# EAGLE library part TXS0104E_RGY_14 (library Deegou_IC)
Texas Instruments TXS0104ERGYR, Voltage Level Translator, Open Drain, 1.65 3.6 V, 2.3 5.5 V, 14-Pin Source: Datasheet <http://www.ti.com/general/docs/lit/getliterature.tsp?genericPartNumber=TXS0104E&&fileType=pdf>
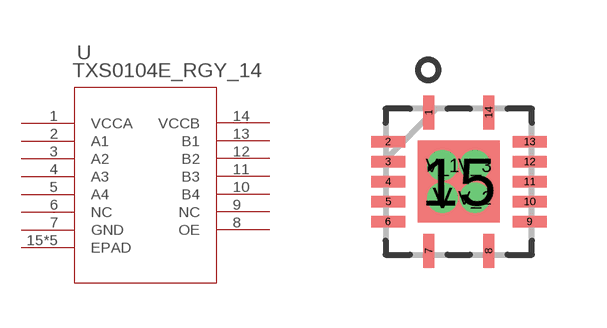
[diagram p121: symbol with the pads of RGY14_2P05X2P05; footprint RGY14_2P05X2P05]

Designator prefix U

## TXS0104E_RGY_14 (DATASHEETURL: httpwww.ti.comlitgpnTXS0104E; FAMILY_NAME: AUTO DIRECTION SENSING DUAL SUPPLY TRANSLATOR; GENERIC_PART_NUMBER: TXS0104E; INDUSTRY_STD_PKG_TYPE: VQFN; MANUFACTURER: Texas Instruments; MANUFACTURER_PART_NUMBER: txs0104e_rgy_14; PACKAGE_DESIGNATOR: RGY; PIN_COUNT: 14; VENDOR: Texas Instruments)  [RGY14_2P05X2P05]
1  VCCA  pwr
2  A1
3  A2
4  A3
5  A4
6  NC  pas
7  GND  pwr
8  OE  out
9  NC  pas
10  B4
11  B3
12  B2
13  B1
14  VCCB  pwr
15  EPAD  pas
V  EPAD  pas
V_1  EPAD  pas
V_2  EPAD  pas
V_3  EPAD  pas

## Footprint RGY14_2P05X2P05 (pad centres in mm)
smd 0.28 x 0.85: 1 -0.75,1.731; 7 -0.75,-1.731; 8 0.75,-1.731; 14 0.75,1.731
smd 0.85 x 0.28: 2 -1.769,1; 3 -1.769,0.5; 4 -1.769,0; 5 -1.769,-0.5; 6 -1.769,-1; 9 1.769,-1; 10 1.769,-0.5; 11 1.769,0; 12 1.769,0.5; 13 1.769,1
smd 2.05 x 2.05: 15 0,0
drill 0.254 pad 0.508: V -0.406,-0.406; V_1 -0.406,0.406; V_2 0.406,-0.406; V_3 0.406,0.406